# EAGLE library part TEENSY4.0 (library wobbleBot)
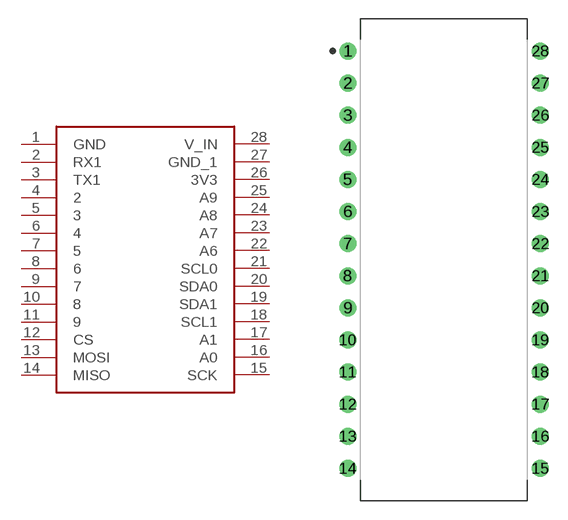
[diagram p1: symbol with the pads of DIP1524W53P254L3810H508Q28B; footprint DIP1524W53P254L3810H508Q28B]

Designator prefix -

## TEENSY4.0TEENSY4.0  [DIP1524W53P254L3810H508Q28B]
1  GND
2  RX1
3  TX1
4  2
5  3
6  4
7  5
8  6
9  7
10  8
11  9
12  CS
13  MOSI
14  MISO
15  SCK
16  A0
17  A1
18  SCL1
19  SDA1
20  SDA0
21  SCL0
22  A6
23  A7
24  A8
25  A9
26  3V3
27  GND_1
28  V_IN

## Footprint DIP1524W53P254L3810H508Q28B (pad centres in mm)
28-DIP, 2.54 mm (0.10 in) pitch, 15.24 mm (0.60 in) span, 38.10 X 13.20 X 5.08 mm body 28-pin DIP package with 2.54 mm (0.10 in) pitch, 15.24 mm (0.60 in) span with body size 38.10 X 13.20 X 5.08 mm
drill 0.743 pad 1.343: 1 -7.62,16.51; 2 -7.62,13.97; 3 -7.62,11.43; 4 -7.62,8.89; 5 -7.62,6.35; 6 -7.62,3.81; 7 -7.62,1.27; 8 -7.62,-1.27; 9 -7.62,-3.81; 10 -7.62,-6.35; 11 -7.62,-8.89; 12 -7.62,-11.43; 13 -7.62,-13.97; 14 -7.62,-16.51; 15 7.62,-16.51; 16 7.62,-13.97; 17 7.62,-11.43; 18 7.62,-8.89; 19 7.62,-6.35; 20 7.62,-3.81; 21 7.62,-1.27; 22 7.62,1.27; 23 7.62,3.81; 24 7.62,6.35; 25 7.62,8.89; 26 7.62,11.43; 27 7.62,13.97; 28 7.62,16.51